# EAGLE library part BDJ0GC0WEFJ-E2 (library BDJ0GC0WEFJ-E2)
1A Variable / Fixed Output LDO Regulator Source: Datasheet <https://componentsearchengine.com/Datasheets/1/BDJ0GC0WEFJ-E2.pdf>
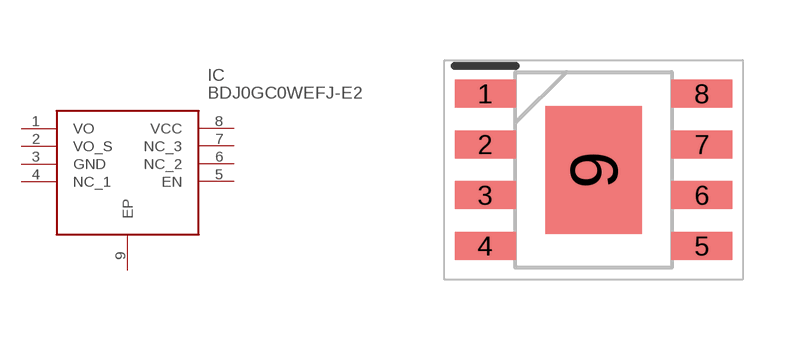
[diagram p0: symbol with the pads of SOIC127P600X100-9N; footprint SOIC127P600X100-9N]

Designator prefix IC

## BDJ0GC0WEFJ-E2 (Description: 1A Variable / Fixed Output LDO Regulator; Height: 1mm; Manufacturer_Name: ROHM Semiconductor; Manufacturer_Part_Number: BDJ0GC0WEFJ-E2; Mouser_Part_Number: 755-BDJ0GC0WEFJ-E2; Mouser_Price-Stock: https://www.mouser.com/Search/Refine.aspx?Keyword=755-BDJ0GC0WEFJ-E2)  [SOIC127P600X100-9N]
1  VO
2  VO_S
3  GND
4  NC_1
5  EN
6  NC_2
7  NC_3
8  VCC
9  EP

## Footprint SOIC127P600X100-9N (pad centres in mm)
HTSOP-J8
smd 1.525 x 0.7: 1 -2.712,1.905; 2 -2.712,0.635; 3 -2.712,-0.635; 4 -2.712,-1.905; 5 2.712,-1.905; 6 2.712,-0.635; 7 2.712,0.635; 8 2.712,1.905
smd 2.4 x 3.2: 9 0,0